# EAGLE library part FABO-I2S-2 (library FaBo-Connetor)
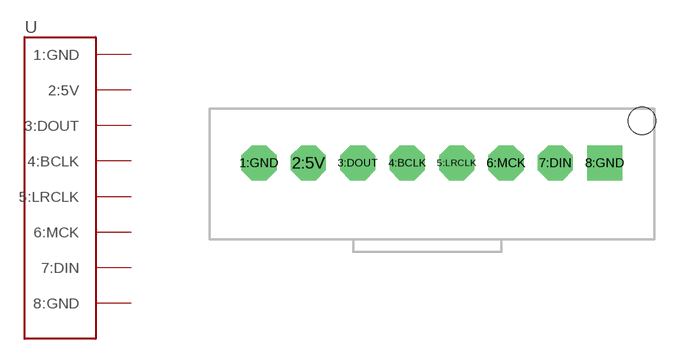
[diagram p26: symbol with the pads of I2S-B08B-PASK-1; footprint I2S-B08B-PASK-1]

Designator prefix -

## FABO-I2S-2  [I2S-B08B-PASK-1]
1:GND  1:GND  pwr
2:5V  2:5V  pwr
3:DOUT  3:DOUT  in
4:BCLK  4:BCLK  in
5:LRCLK  5:LRCLK  in
6:MCK  6:MCK  out
7:DIN  7:DIN  out
8:GND  8:GND  pwr

## Footprint I2S-B08B-PASK-1 (pad centres in mm)
drill 0.8 pad 1.422 octagon: 1:GND -7,0.02; 2:5V -5,0.02; 3:DOUT -3,0.02; 4:BCLK -1,0.02; 5:LRCLK 1,0.02; 6:MCK 3,0.02; 7:DIN 5,0.02
drill 0.8 pad 1.422 square: 8:GND 7,0.02
hole 1.1 at 8.5,1.72